# Altium schematic symbol library RES 68k 1_8W.Schlib: 1 symbol
Pins are listed as number, name and electrical type; pins without a type are passive.

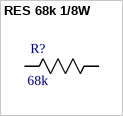
[diagram p0: symbol RES 68k 1/8W]

## RES 68k 1/8W
designator R?, comment 68k
RES SMD 68K OHM 5% 1/8W 0805; Power (Watts): 0.125W; Package: 0805; Value: 68k; Tolerance: 5%
footprint 0805
pins: 1 R1, 2 R2